# EAGLE library part DIPSWITCH_8P (library CASE-Switches)
Standard 8 position DIP-Switch Description: Standard 8 position DIP-Switch in DIP/SIP and SMD package. Links: TE 1825360-1 <https://www.te.com/commerce/DocumentDelivery/DDEController?Action=showdoc&DocId=Customer+Drawing%7F1825360%7FB4%7Fpdf%7FEnglish%7FENG_CD_1825360_B4.pdf%7F1825360-1> TE EDS08SNNNTU04Q <http://www.farnell.com/datasheets/2367232.pdf?_ga=2.78644432.510093211.1546607516-411290609.1543318711>
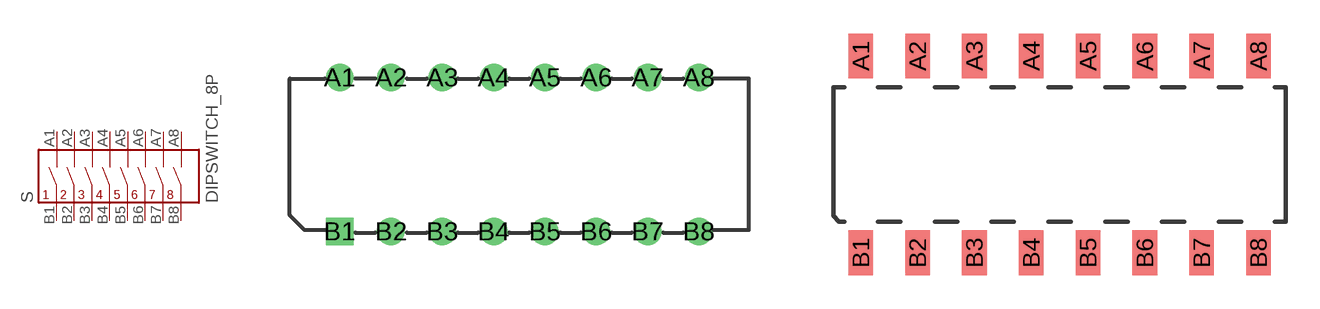
[diagram p2: symbol with the pads of DIPSWITCH_8P; footprints DIPSWITCH_8P, DIPSWITCH_8P_SMD]

Designator prefix S

## DIPSWITCH_8P1825360-5  [DIPSWITCH_8P]
A1  A1
A2  A2
A3  A3
A4  A4
A5  A5
A6  A6
A7  A7
A8  A8
B1  B1
B2  B2
B3  B3
B4  B4
B5  B5
B6  B6
B7  B7
B8  B8

## DIPSWITCH_8PEDS08SNNNTU04Q  [DIPSWITCH_8P_SMD]
Pads as for DIPSWITCH_8P

## Footprint DIPSWITCH_8P (pad centres in mm)
Links: Datasheet <https://www.te.com/commerce/DocumentDelivery/DDEController?Action=showdoc&DocId=Customer+Drawing%7F1825360%7FB4%7Fpdf%7FEnglish%7FENG_CD_1825360_B4.pdf%7F1825360-1>
drill 0.85: A1 -8.89,3.81; A2 -6.35,3.81; A3 -3.81,3.81; A4 -1.27,3.81; A5 1.27,3.81; A6 3.81,3.81; A7 6.35,3.81; A8 8.89,3.81; B2 -6.35,-3.81; B3 -3.81,-3.81; B4 -1.27,-3.81; B5 1.27,-3.81; B6 3.81,-3.81; B7 6.35,-3.81; B8 8.89,-3.81
drill 0.85 pad 1.25 square: B1 -8.89,-3.81

## Footprint DIPSWITCH_8P_SMD (pad centres in mm)
Links: Datasheet <http://www.farnell.com/datasheets/2367232.pdf?_ga=2.78644432.510093211.1546607516-411290609.1543318711>
smd 1.1 x 2: A1 -8.89,4.4; A2 -6.35,4.4; A3 -3.81,4.4; A4 -1.27,4.4; A5 1.27,4.4; A6 3.81,4.4; A7 6.35,4.4; A8 8.89,4.4; B1 -8.89,-4.4; B2 -6.35,-4.4; B3 -3.81,-4.4; B4 -1.27,-4.4; B5 1.27,-4.4; B6 3.81,-4.4; B7 6.35,-4.4; B8 8.89,-4.4